# Altium footprint library Bourns.PcbLib: 4 footprints
Each footprint in its own frame and in the unit in brackets; x right, y up, seen from the top. Pads: shape width x height; smd on the part's side, far side on the other; paste and mask are expansions set on the pad; w line width, h text height; cw(c..) or ccw(c..) is an arc to the next point about the centre after c.
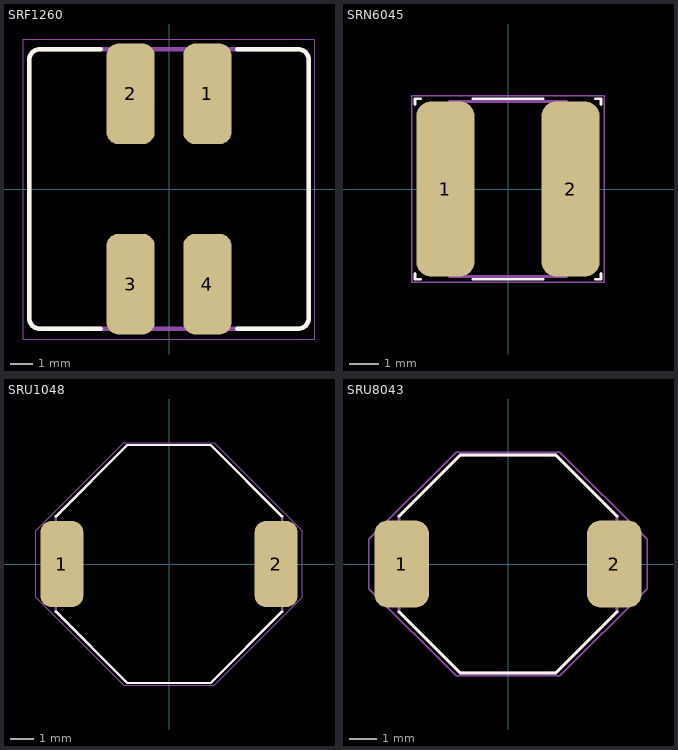
[diagram p0: the footprints below, top view; thin cyan lines are the x and y axes]

## SRF1260 [mm]
pads (4):
  rrect50% 2.15x4.5 smd: 1(1.715,4.25) 2(-1.715,4.25) 3(-1.715,-4.25) 4(1.715,-4.25)
Top Overlay:
  lines w0.2: -3.05,-6.25 -5.738,-6.25 cw(c-5.738,-5.738) -6.25,-5.738 -6.25,5.738 cw(c-5.738,5.738) -5.738,6.25 -3.05,6.25 ; 3.05,-6.25 5.738,-6.25 ccw(c5.738,-5.738) 6.25,-5.738 6.25,5.733 ; 3.05,6.25 5.733,6.25 ; 5.738,6.25 cw(c5.738,5.738) 6.25,5.738
Mechanical 13:
  lines w0.2: -5.738,6.25 ccw(c-5.738,5.738) -6.25,5.738 -6.25,-5.738 ccw(c-5.738,-5.738) -5.738,-6.25 5.733,-6.25 ; -5.733,6.25 5.738,6.25 cw(c5.738,5.738) 6.25,5.738 ; 5.738,-6.25 ccw(c5.738,-5.738) 6.25,-5.738 6.25,5.733
Mechanical 15:
  lines w0.05: -6.5,-6.7 -6.5,6.7 6.5,6.7 6.5,-6.7 -6.5,-6.7
  text ".Designator" at -4.7,-0.5 h2
3D body "srf1260.stp": height 6, standoff 0, extent -6.25,-6.25 6.25,6.25

## SRN6045 [mm]
pads (2):
  rrect50% 2x6 smd: 1(-2.15,0) 2(2.15,0)
Top Overlay:
  lines w0.1: -3.2,-2.9 -3.2,-3.1 -3,-3.1 ; -3.2,2.9 -3.2,3.1 -3,3.1 ; -1.2,-3.1 1.2,-3.1 ; -1.2,3.1 1.2,3.1 ; 3,-3.1 3.2,-3.1 3.2,-2.9 ; 3,3.1 3.2,3.1 3.2,2.9
Mechanical 13:
  lines w0.1: -3,-2 -3,-1 -3,2 -2,3 2,3 3,2 3,-2 2,-3 -2,-3 -3,-2
Mechanical 15:
  lines w0.05: -3.3,-3.2 3.3,-3.2 3.3,3.2 -3.3,3.2 -3.3,-3.2
  text ".Designator" at -1.6,-0.2 h0.75
3D body "srn6045.stp": height 4.5, standoff 0, extent -3,-3 3,3

## SRU1048 [mm]
pads (2):
  rrect50% 1.8x3.6 smd: 1(-4.5,0) 2(4.5,0)
Top Overlay:
  lines w0.1: -4.75,-2 -1.75,-5 1.75,-5 4.75,-2 ; -4.75,2 -1.75,5 1.75,5 4.75,2
Mechanical 13:
  lines w0.1: -4.75,-2 -4.75,2 -1.75,5 1.75,5 4.75,2 4.75,-2 1.75,-5 -1.75,-5 -4.75,-2
Mechanical 15:
  lines w0.05: -5.6,-1.4 -1.9,-5.1 1.9,-5.1 5.6,-1.4 5.6,1.4 1.9,5.1 -1.9,5.1 -5.6,1.4 -5.6,-1.4
  text ".Designator" at -1.6,-0.2 h0.75
3D body "sru1048.stp": height 4.8, standoff 0, extent -5,-5 5,5

## SRU8043 [mm]
pads (2):
  rrect50% 2x3.2 smd: 1(-3.9,0) 2(3.9,0)
Top Overlay:
  lines w0.1: -4,-1.75 -1.75,-4 1.75,-4 4,-1.75 ; -4,1.75 -1.75,4 1.75,4 4,1.75
Mechanical 13:
  lines w0.1: -4,-1.75 -4,1.75 -1.75,4 1.75,4 4,1.75 4,-1.75 1.75,-4 -1.75,-4 -4,-1.75
Mechanical 15:
  lines w0.05: -5.1,-0.9 -5.1,0.9 -1.9,4.1 1.9,4.1 5.1,0.9 5.1,-0.9 1.9,-4.1 -1.9,-4.1 -5.1,-0.9
  text ".Designator" at -1.6,-0.2 h0.75
3D body "sru8043 (1).stp": height 4.3, standoff 0, extent -4,-4 4,4